# Altium footprint library TO-225.PcbLib: 1 footprints
Each footprint in its own frame and in the unit in brackets; x right, y up, seen from the top. Pads: shape width x height; smd on the part's side, far side on the other; paste and mask are expansions set on the pad; w line width, h text height; cw(c..) or ccw(c..) is an arc to the next point about the centre after c.
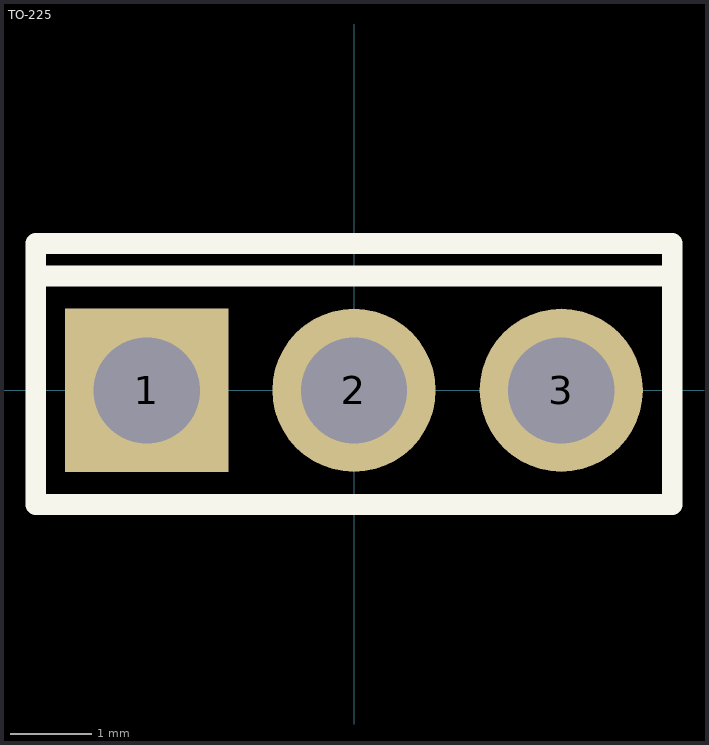
[diagram p0: the footprint, top view; thin cyan lines are the x and y axes]

## TO-225 [mm]
pads (3):
  rect 2x2 hole 1.3: 1(-2.54,0)
  round 2 hole 1.3: 2(0,0) 3(2.54,0)
Top Overlay:
  lines w0.254: -3.9,1.4 3.9,1.4 ; -3.9,-1.4 3.9,-1.4 3.9,1.8 -3.9,1.8 -3.9,-1.4